# Altium schematic symbol library RF.SchLib: 1 symbol
Pins are listed as number, name and electrical type; pins without a type are passive.

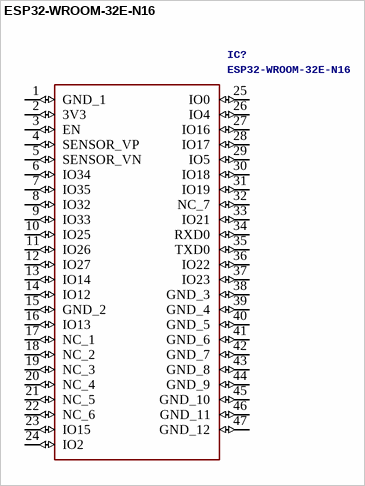
[diagram p0: symbol ESP32-WROOM-32E-N16]

## ESP32-WROOM-32E-N16
designator IC?
ESP32 Wifi&BluetoothModule; Manufacturer: Espressif Systems; SupplierNumber: 1965-ESP32-WROOM-32E-N16TR-ND; SuppliersPartNumber: C701343; PartNumber: ESP32-WROOM-32E-N16; Value: *; Link: https://www.digikey.ca/en/products/detail/espressif-systems/ESP32-WROOM-32E-N16/11613144?s=N4IgTCBcDaIKIGUAKBmMBaA6gJQPK4Fl0050A5ARgDYQBdAXyA; Package: SMD38,18x25.5x3.1 WiFi Modules ROHS
footprint ESP32WROOM32EN16
pins: 1 GND_1 (io), 2 3V3 (io), 3 EN (io), 4 SENSOR_VP (io), 5 SENSOR_VN (io), 6 IO34 (io), 7 IO35 (io), 8 IO32 (io), 9 IO33 (io), 10 IO25 (io), 11 IO26 (io), 12 IO27 (io), 13 IO14 (io), 14 IO12 (io), 15 GND_2 (io), 16 IO13 (io), 17 NC_1 (io), 18 NC_2 (io), 19 NC_3 (io), 20 NC_4 (io), 21 NC_5 (io), 22 NC_6 (io), 23 IO15 (io), 24 IO2 (io), 25 IO0 (io), 26 IO4 (io), 27 IO16 (io), 28 IO17 (io), 29 IO5 (io), 30 IO18 (io), 31 IO19 (io), 32 NC_7 (io), 33 IO21 (io), 34 RXD0 (io), 35 TXD0 (io), 36 IO22 (io), 37 IO23 (io), 38 GND_3 (io), 39 GND_4 (io), 40 GND_5 (io), 41 GND_6 (io), 42 GND_7 (io), 43 GND_8 (io), 44 GND_9 (io), 45 GND_10 (io), 46 GND_11 (io), 47 GND_12 (io)